# Altium footprint library PCB13.PcbLib: 27 footprints (part 1 of 2)
Each footprint in its own frame and in the unit in brackets; x right, y up, seen from the top. Pads: shape width x height; smd on the part's side, far side on the other; paste and mask are expansions set on the pad; w line width, h text height; cw(c..) or ccw(c..) is an arc to the next point about the centre after c.
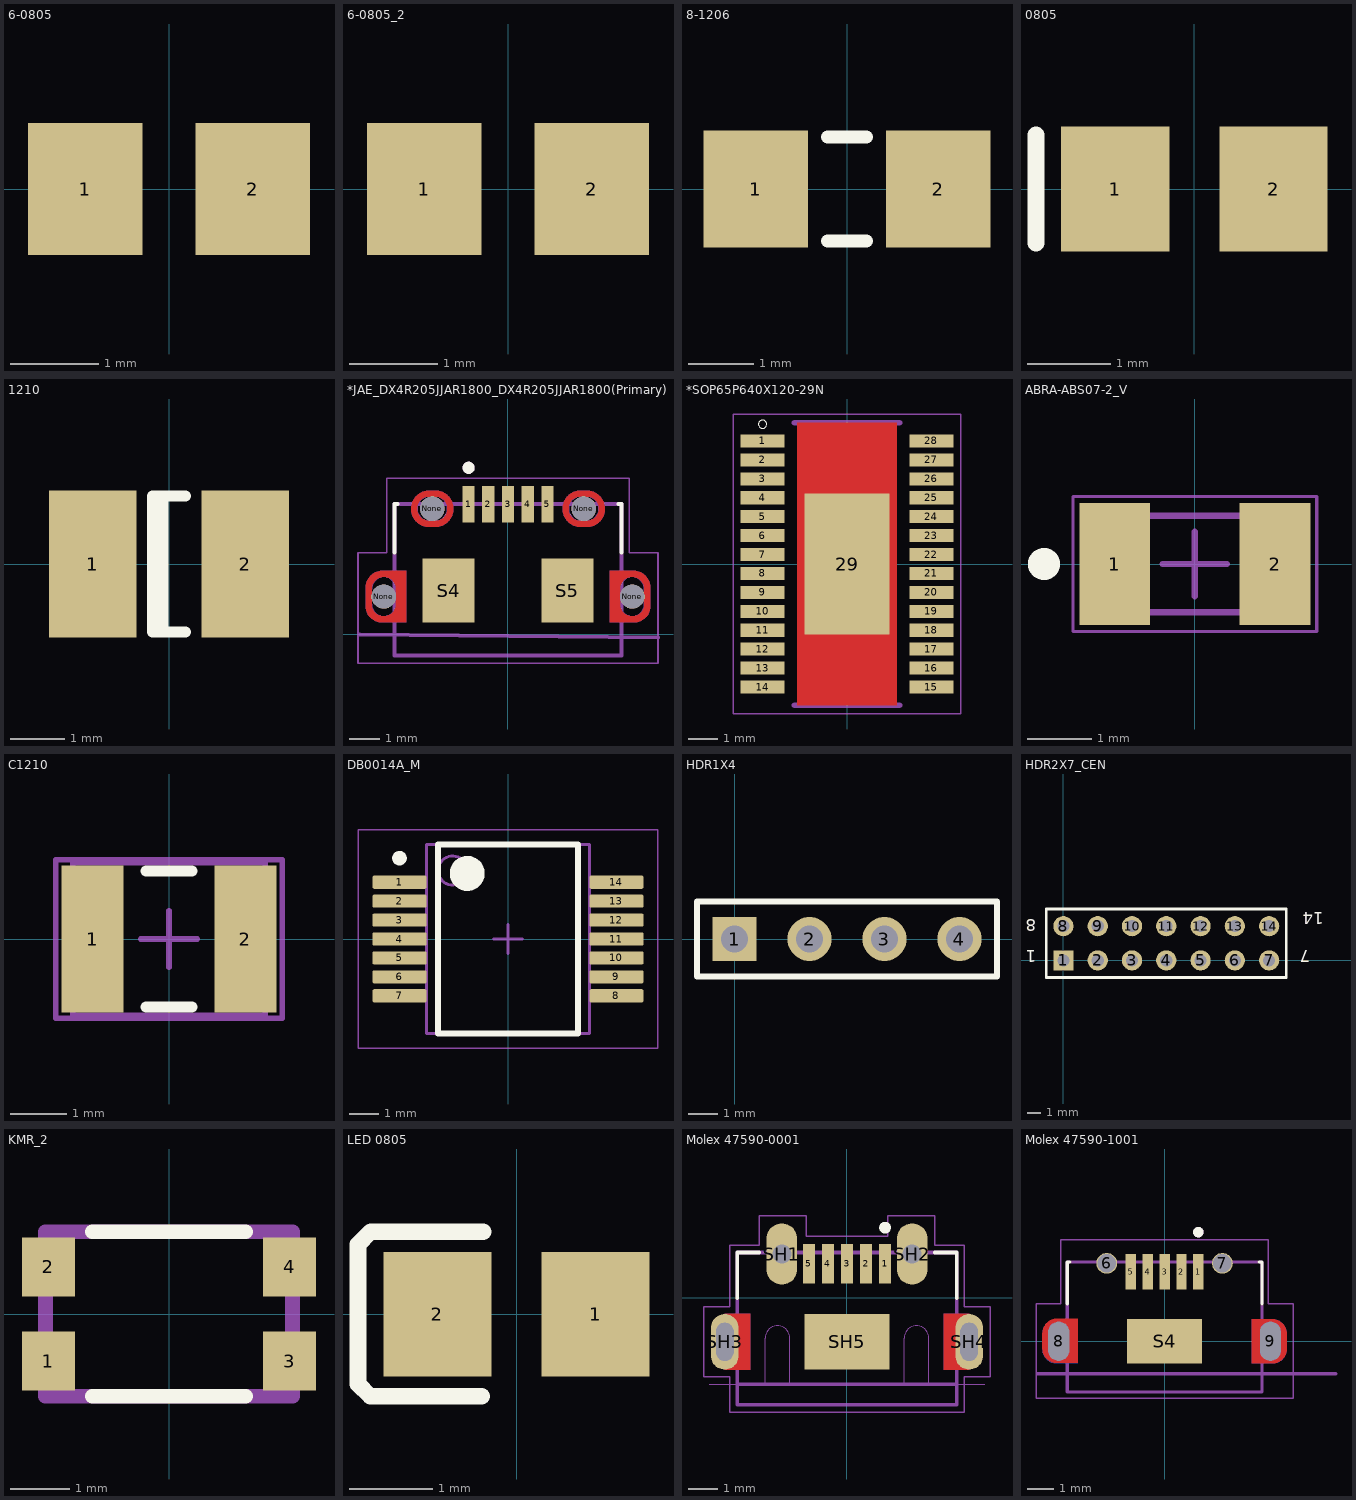
[diagram p0: the footprints below, top view; thin cyan lines are the x and y axes]

## 6-0805 [mm]
pads (2):
  rect 1.3x1.5 smd: 1(-0.95,0) 2(0.95,0)

## 6-0805_2 [mm]
pads (2):
  rect 1.3x1.5 smd: 1(-0.95,0) 2(0.95,0)

## 8-1206 [mm] "Chip Resistor; Body 3.1 x 1.6 mm (LxW typ)"
height 0.7
pads (2):
  rect 1.6x1.8 smd: 1(-1.4,0) 2(1.4,0)
Top Overlay:
  lines w0.2: -0.3,-0.8 0.3,-0.8 ; -0.3,0.8 0.3,0.8

## 0805 [mm]
pads (2):
  rect 1.3x1.5 smd: 1(-0.95,0) 2(0.95,0)
Top Overlay:
  lines w0.2: -1.9,-0.65 -1.9,0.65

## 1210 [mm] "Chip Capacitor; Body 3.2 x 2.5 mm (LxW typ)"
height 1.7
pads (2):
  rect 1.6x2.7 smd: 1(-1.4,0) 2(1.4,0)
Top Overlay:
  lines w0.2: -0.11,-1.25 -0.11,1.25 ; 0.3,-1.25 -0.3,-1.25 -0.3,1.25 0.3,1.25

## *JAE_DX4R205JJAR1800_DX4R205JJAR1800(Primary) [mm]
pads (11):
  rect 0.4x1.2 smd: 1(-1.3,4.3) 2(-0.65,4.3) 3(0,4.3) 4(0.65,4.3) 5(1.3,4.3)
  round 0.8 hole 0.8 unplated: None(-4.1,1.25) None(-2.5,4.15) None(2.5,4.15) None(4.1,1.25)
  rect 1.725x2.1 smd: S4(-1.962,1.45) S5(1.962,1.45)
Top Layer:
  region: 196 vertices and 0 holes, not listed, extent 3.35,0.4 4.7,2.1
  region: 199 vertices and 0 holes, not listed, extent -4.7,0.4 -3.35,2.1
  region: 259 vertices and 0 holes, not listed, extent -3.2,3.55 -1.8,4.75
  region: 262 vertices and 0 holes, not listed, extent 1.8,3.55 3.2,4.75
Bottom Layer:
  region: 196 vertices and 0 holes, not listed, extent 3.35,0.4 4.7,2.1
  region: 196 vertices and 0 holes, not listed, extent -4.7,0.4 -3.35,2.1
  region: 262 vertices and 0 holes, not listed, extent 1.8,3.55 3.2,4.75
  region: 259 vertices and 0 holes, not listed, extent -3.2,3.55 -1.8,4.75
Top Overlay:
  circle w0.2: c-1.3,5.5 r0.1
  lines w0.127: -3.75,2.7 -3.75,4.3 -3.65,4.3 ; 3.65,4.3 3.75,4.3 3.75,2.7
Top Paste:
  drawing of 4 lines, arcs and shapes, not listed
Bottom Paste:
  drawing of 4 lines, arcs and shapes, not listed
Top Solder:
  drawing of 4 lines, arcs and shapes, not listed
Bottom Solder:
  drawing of 4 lines, arcs and shapes, not listed
Mechanical 1:
  lines w0: -4.5,1 ccw(c-4.1,1) -3.7,1 -3.7,1.5 ccw(c-4.1,1.5) -4.5,1.5 -4.5,1 ; -2.6,3.75 cw(c-2.6,4.15) -2.6,4.55 -2.4,4.55 cw(c-2.4,4.15) -2.4,3.75 -2.6,3.75 ; 2.4,3.75 cw(c2.4,4.15) 2.4,4.55 2.6,4.55 cw(c2.6,4.15) 2.6,3.75 2.4,3.75 ; 3.7,1 ccw(c4.1,1) 4.5,1 4.5,1.5 ccw(c4.1,1.5) 3.7,1.5 3.7,1
Mechanical 4:
  circle w0.2: c-1.3,5.5 r0.1
  circle w0.2: c-1.3,5.5 r0.1
  lines w0.127: -3.75,-0.7 -3.75,4.3 ; -3.75,-0.7 3.75,-0.7 ; -3.75,-0.7 -3.75,4.3 ; -3.75,-0.7 3.75,-0.7 ; -3.75,4.3 3.75,4.3 ; -3.75,4.3 3.75,4.3 ; 3.75,-0.7 3.75,4.3 ; 3.75,-0.7 3.75,4.3 ; -4.9,0 4.95,-0.098 -4.9,0
Mechanical 16:
  lines w0.05: -4.95,-0.95 4.95,-0.95 4.95,2.7 4,2.7 4,5.15 -4,5.15 -4,2.7 -4.95,2.7 -4.95,-0.95

## *SOP65P640X120-29N [mm]
pads (29):
  rect 1.5x0.45 smd: 1(-2.9,4.225) 2(-2.9,3.575) 3(-2.9,2.925) 4(-2.9,2.275) 5(-2.9,1.625) 6(-2.9,0.975) 7(-2.9,0.325) 8(-2.9,-0.325) 9(-2.9,-0.975) 10(-2.9,-1.625) 11(-2.9,-2.275) 12(-2.9,-2.925) 13(-2.9,-3.575) 14(-2.9,-4.225) 15(2.9,-4.225) 16(2.9,-3.575) 17(2.9,-2.925) 18(2.9,-2.275) 19(2.9,-1.625) 20(2.9,-0.975) 21(2.9,-0.325) 22(2.9,0.325) 23(2.9,0.975) 24(2.9,1.625) 25(2.9,2.275) 26(2.9,2.925) 27(2.9,3.575) 28(2.9,4.225)
  rect 2.921x4.826 smd: 29(0,0)
Top Layer:
  region: -1.7,4.85 1.7,4.85 1.7,-4.85 -1.7,-4.85
Top Overlay:
  circle w0: c-2.9,4.8 r0.141
Top Paste:
  region: -0.851,2.2 0.85,2.2 0.85,0.2 -0.851,0.2
  region: -0.851,-0.2 0.85,-0.2 0.85,-2.203 -0.851,-2.203
Mechanical 13:
  circle w0: c-1.3,4.4 r0.2
  circle w0.1: c0,0 r0.2
  circle w0.1: c1.3,0 r0.2
  circle w0.1: c-1.3,0 r0.2
  circle w0.1: c-1.3,1.3 r0.2
  circle w0.1: c0,1.3 r0.2
  circle w0.1: c1.3,1.3 r0.2
  circle w0.1: c1.3,2.6 r0.2
  circle w0.1: c1.3,3.9 r0.2
  circle w0.1: c0,3.9 r0.2
  circle w0.1: c0,2.6 r0.2
  circle w0.1: c-1.3,2.6 r0.2
  circle w0.1: c-1.3,3.9 r0.2
  circle w0.1: c-1.3,-1.3 r0.2
  circle w0.1: c0,-1.3 r0.2
  circle w0.1: c1.3,-1.3 r0.2
  circle w0.1: c1.3,-2.6 r0.2
  circle w0.1: c0,-2.6 r0.2
  circle w0.1: c-1.3,-2.6 r0.2
  circle w0.1: c-1.3,-3.9 r0.2
  circle w0.1: c0,-3.9 r0.2
  circle w0.1: c1.3,-3.9 r0.2
  circle w0: c-1.3,4.4 r0.2
  circle w0.1: c0,0 r0.2
  circle w0.1: c1.3,0 r0.2
  circle w0.1: c-1.3,0 r0.2
  circle w0.1: c-1.3,1.3 r0.2
  circle w0.1: c0,1.3 r0.2
  circle w0.1: c1.3,1.3 r0.2
  circle w0.1: c1.3,2.6 r0.2
  circle w0.1: c1.3,3.9 r0.2
  circle w0.1: c0,3.9 r0.2
  circle w0.1: c0,2.6 r0.2
  circle w0.1: c-1.3,2.6 r0.2
  circle w0.1: c-1.3,3.9 r0.2
  circle w0.1: c-1.3,-1.3 r0.2
  circle w0.1: c0,-1.3 r0.2
  circle w0.1: c1.3,-1.3 r0.2
  circle w0.1: c1.3,-2.6 r0.2
  circle w0.1: c0,-2.6 r0.2
  circle w0.1: c-1.3,-2.6 r0.2
  circle w0.1: c-1.3,-3.9 r0.2
  circle w0.1: c0,-3.9 r0.2
  circle w0.1: c1.3,-3.9 r0.2
  lines w0.2: -1.8,-4.85 1.8,-4.85 -1.8,-4.85 ; -1.8,4.85 1.8,4.85 -1.8,4.85
Mechanical 15:
  lines w0.05: -3.9,-5.15 3.9,-5.15 3.9,5.15 -3.9,5.15 -3.9,-5.15

## ABRA-ABS07-2_V [mm] "Hand Drawn, 2-Leads, Body 3.2x1.5mm, Pitch 2.5mm"
height 0.9
pads (2):
  rect 1.1x1.9 smd: 1(-1.25,0) 2(1.25,0)
Top Overlay:
  circle w0.25: c-2.35,0 r0.125
Mechanical 13:
  lines w0.1: -1.6,-0.75 1.6,-0.75 1.6,0.75 -1.6,0.75 -1.6,-0.75
Mechanical 15:
  lines w0.05: -1.9,-1.05 1.9,-1.05 1.9,1.05 -1.9,1.05 -1.9,-1.05
  lines w0.1: -0.5,0 0.5,0 ; 0,-0.5 0,0.5
3D body: height 0.9, standoff 0, extent -1.6,-0.75 1.6,0.75

## C1210 [mm] "Chip Capacitor, Body 3.2x2.5mm, IPC High Density"
height 1.3
pads (2):
  rect 1.1x2.6 smd: 1(-1.35,0) 2(1.35,0)
Top Overlay:
  lines w0.2: -0.4,-1.2 0.4,-1.2 ; -0.4,1.2 0.4,1.2
Mechanical 13:
  lines w0.1: -1.7,-1.35 1.7,-1.35 1.7,1.35 -1.7,1.35 -1.7,-1.35
Mechanical 15:
  lines w0.1: -0.5,0 0.5,0 ; 0,-0.5 0,0.5 ; -2,-1.4 2,-1.4 2,1.4 -2,1.4 -2,-1.4
3D body: height 1.3, standoff 0, extent -1.7,-1.35 1.7,1.35

## DB0014A_M [mm] "SOP, 14-Leads, Body 5.6x6.5mm, Pitch 0.65mm, IPC Low Density"
height 2
pads (14):
  rrect22% 1.85x0.45 smd: 1(-3.725,1.95) 2(-3.725,1.3) 3(-3.725,0.65) 4(-3.725,0) 5(-3.725,-0.65) 6(-3.725,-1.3) 7(-3.725,-1.95) 8(3.725,-1.95) 9(3.725,-1.3) 10(3.725,-0.65) 11(3.725,0) 12(3.725,0.65) 13(3.725,1.3) 14(3.725,1.95)
Top Overlay:
  circle w0.6: c-1.4,2.25 r0.3
  circle w0.25: c-3.725,2.775 r0.125
  lines w0.2: -2.4,-3.25 2.4,-3.25 2.4,3.25 -2.4,3.25 -2.4,-3.25
Mechanical 1:
  text ".Designator" at -1.651,-0.381 h1
Mechanical 13:
  circle w0.1: c-1.9,2.35 r0.5
  lines w0.1: -2.8,-3.25 2.8,-3.25 2.8,3.25 -2.8,3.25 -2.8,-3.25
Mechanical 15:
  lines w0.05: -5.15,-3.75 5.15,-3.75 5.15,3.75 -5.15,3.75 -5.15,-3.75
  lines w0.1: -0.5,0 0.5,0 ; 0,-0.5 0,0.5
3D body "DB0014A.stp": height 2, standoff 0, extent -3.905,-3.1 3.906,3.1

## HDR1X4 [mm] "Connector; Header; 4 Position"
pads (4):
  rect 1.5x1.5 hole 0.9: 1(0,0)
  round 1.5 hole 0.9: 2(2.54,0) 3(5.08,0) 4(7.62,0)
Top Overlay:
  lines w0.2: -1.27,-1.27 -1.27,1.27 8.89,1.27 8.89,-1.27 -1.27,-1.27

## HDR2X7_CEN [mm] "Connector; Header; 7x2 Position"
pads (14):
  rect 1.5x1.5 hole 0.9: 1(0,0)
  round 1.5 hole 0.9: 2(2.54,0) 3(5.08,0) 4(7.62,0) 5(10.16,0) 6(12.7,0) 7(15.24,0) 8(0,2.54) 9(2.54,2.54) 10(5.08,2.54) 11(7.62,2.54) 12(10.16,2.54) 13(12.7,2.54) 14(15.24,2.54)
Top Overlay:
  lines w0.2: -1.27,-1.27 -1.27,3.81 16.51,3.81 16.51,-1.27 -1.27,-1.27
  text "14" at 19.304,3.556 h0.89
  text "7" at 18.288,0.762 h0.89
  text "1" at -2.032,0.762 h0.89
  text "8" at -2.032,3.048 h0.89

## KMR_2 [mm]
pads (4):
  rect 0.9x1 smd: 1(-2.05,-0.8) 2(-2.05,0.8) 3(2.05,-0.8) 4(2.05,0.8)
Top Overlay:
  lines w0.25: -1.3,-1.4 1.3,-1.4 ; -1.3,1.4 1.3,1.4
Mechanical 13:
  lines w0.25: -2.1,-1.4 2.1,-1.4 2.1,1.4 -2.1,1.4 -2.1,-1.4

## LED 0805 [mm]
pads (2):
  rect 1.3x1.5 smd: 1(0.95,0) 2(-0.95,0)
Top Overlay:
  lines w0.2: -0.417,-0.986 -1.758,-0.986 -1.905,-0.838 -1.905,0.838 -1.753,0.991 -0.402,0.991

## Molex 47590-0001 [mm] "Micro USB AB 5 Pin"
pads (10):
  rect 0.4x1.35 smd: 1(1.3,1.175) 2(0.65,1.175) 3(0,1.175) 4(-0.65,1.175) 5(-1.3,1.175)
  oval 1.05x2.1 hole 0.65 square: SH1(-2.225,1.5) SH2(2.225,1.5)
  oval 0.95x1.9 hole 0.6 slot 1.3 at 90 deg: SH3(-4.175,-1.5) SH4(4.175,-1.5)
  rect 2.9x1.9 smd: SH5(0,-1.5)
Top Layer:
  region: 4.175,-2.45 3.3,-2.45 3.3,-0.55 4.175,-0.55
  region: -3.3,-2.451 -4.177,-2.451 -4.177,-0.55 -3.3,-0.55
Bottom Layer:
  region: 4.175,-2.451 3.305,-2.451 3.305,-0.55 4.175,-0.55
  region: -3.3,-2.45 -4.177,-2.45 -4.177,-0.55 -3.3,-0.55
Top Overlay:
  circle w0.2: c1.3,2.4 r0.1
  lines w0.127: -3.75,0 -3.75,1.55 -3,1.55 ; 3,1.55 3.75,1.55 3.75,0
Top Paste:
  region: 4.175,-2.452 3.306,-2.452 3.306,-0.55 4.175,-0.55
  region: -3.3,-2.451 -4.178,-2.451 -4.178,-0.55 -3.3,-0.55
Bottom Paste:
  region: 4.175,-2.452 3.305,-2.452 3.305,-0.55 4.175,-0.55
  region: -3.3,-2.452 -4.183,-2.452 -4.183,-0.55 -3.3,-0.55
Top Solder:
  region: 4.175,-2.552 3.205,-2.552 3.205,-0.45 4.175,-0.45
  region: -3.2,-2.55 -4.175,-2.55 -4.175,-0.45 -3.2,-0.45
Bottom Solder:
  region: 4.175,-2.552 3.206,-2.552 3.206,-0.45 4.175,-0.45
  region: -3.2,-2.552 -4.181,-2.552 -4.181,-0.45 -3.2,-0.45
Mechanical 1:
  lines w0: -4.7,-2.95 -2.8,-2.95 -2.8,-1.375 cw(c-2.375,-1.375) -1.95,-1.375 -1.95,-2.95 1.95,-2.95 1.95,-1.375 cw(c2.375,-1.375) 2.8,-1.375 2.8,-2.95 4.7,-2.95
Mechanical 13:
  circle w0.2: c1.3,1.25 r0.1
  lines w0.127: 3.75,-2.95 -3.75,-2.95 ; -3.75,-2.95 -3.75,1.55 3.75,1.55 3.75,-3.65 -3.75,-3.65 -3.75,-2.95
Mechanical 15:
  lines w0.05: -4.9,-2.7 -4.9,-0.3 -4,-0.3 -4,1.8 -3,1.8 -3,2.8 -1.4,2.8 -1.4,2.1 1.4,2.1 1.4,2.8 3,2.8 3,1.8 4,1.8 4,-0.3 4.9,-0.3 4.9,-2.7 4,-2.7 4,-3.9 -4,-3.9 -4,-2.7 -4.9,-2.7

## Molex 47590-1001 [mm] "Molex 47590-1001"
pads (10):
  rect 0.4x1.35 smd: 1(1.3,2.675) 2(0.65,2.675) 3(0,2.675) 4(-0.65,2.675) 5(-1.3,2.675)
  round 0.8 hole 0.711 unplated paste+0.17: 6(-2.225,3) 7(2.225,3)
  round 0.8 hole 0.8 slot 1.5 at 90 deg unplated: 8(-4.075,0) 9(4.075,-0.001)
  rect 2.9x1.7 smd: S4(0,0)
Top Layer:
  region: 191 vertices and 0 holes, not listed, extent -4.7,-0.831 -3.35,0.869
  region: 196 vertices and 0 holes, not listed, extent 3.35,-0.85 4.7,0.85
Bottom Layer:
  region: 196 vertices and 0 holes, not listed, extent -4.7,-0.851 -3.35,0.849
  region: 196 vertices and 0 holes, not listed, extent 3.35,-0.851 4.7,0.849
Top Overlay:
  circle w0.2: c1.3,4.2 r0.1
  lines w0.127: -3.75,1.449 -3.75,3.049 -3.65,3.049 ; 3.65,3.049 3.75,3.049 3.75,1.449
Top Paste:
  drawing of 2 lines, arcs and shapes, not listed
Bottom Paste:
  drawing of 2 lines, arcs and shapes, not listed
Top Solder:
  region: -4.8,0.949 -3.25,0.949 -3.25,-0.951 -4.8,-0.951
  region: 3.24,0.949 4.8,0.949 4.8,-0.951 3.24,-0.951
Bottom Solder:
  region: -4.8,0.949 -3.25,0.949 -3.25,-0.951 -4.8,-0.951
  region: 3.24,0.949 4.8,0.949 4.8,-0.951 3.24,-0.951
Mechanical 1:
  lines w0: -4.5,-0.151 ccw(c-4.1,-0.151) -3.7,-0.151 -3.7,0.349 ccw(c-4.1,0.349) -4.5,0.349 -4.5,-0.151 ; 3.7,-0.251 ccw(c4.1,-0.251) 4.5,-0.251 4.5,0.249 ccw(c4.1,0.249) 3.7,0.249 3.7,-0.251
Mechanical 4:
  circle w0.2: c1.3,4.2 r0.1
  circle w0.2: c1.3,4.2 r0.1
  lines w0.127: -3.75,-1.951 3.75,-1.951 ; -3.75,-1.951 -3.75,3.049 ; -3.75,-1.951 3.75,-1.951 ; -3.75,-1.951 -3.75,3.049 ; -3.75,3.049 3.75,3.049 ; -3.75,3.049 3.75,3.049 ; 3.75,-1.951 3.75,3.049 ; 3.75,-1.951 3.75,3.049 ; -4.9,-1.251 6.6,-1.251 -4.9,-1.251
Mechanical 16:
  lines w0.05: -4.95,-2.201 -4.95,1.449 -4,1.449 -4,3.899 4,3.899 4,1.449 4.95,1.449 4.95,-2.201 -4.95,-2.201